# Altium footprint library BZD27C200PWH.PcbLib: 1 footprints
Each footprint in its own frame and in the unit in brackets; x right, y up, seen from the top. Pads: shape width x height; smd on the part's side, far side on the other; paste and mask are expansions set on the pad; w line width, h text height; cw(c..) or ccw(c..) is an arc to the next point about the centre after c.
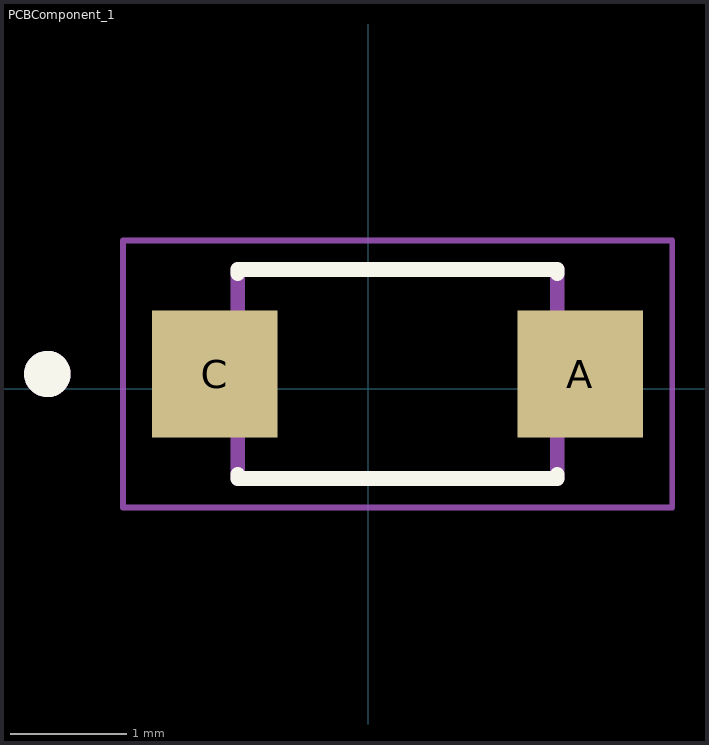
[diagram p0: the footprint, top view; thin cyan lines are the x and y axes]

## PCBComponent_1 [mm]
pads (2):
  rect 1.08x1.09 smd: A(1.829,0.127) C(-1.321,0.127)
Top Overlay:
  circle w0.2: c-2.761,0.127 r0.1
  lines w0.127: -1.121,-0.738 -1.121,-0.773 1.629,-0.773 1.629,-0.738 ; -1.121,0.992 -1.121,1.027 1.629,1.027 1.629,0.992
Mechanical 13:
  circle w0.2: c-2.761,0.127 r0.1
  lines w0.127: -1.121,-0.773 1.629,-0.773 1.629,1.027 -1.121,1.027 -1.121,-0.773
Mechanical 15:
  lines w0.05: -2.111,-1.023 2.619,-1.023 2.619,1.277 -2.111,1.277 -2.111,-1.023
3D body "step_temp.STEP": height 1.02, standoff 0, extent -1.596,-0.773 2.104,1.027